# EAGLE library part HM_AT_MAINBOARD_V0.2 (library HOME_Automation)
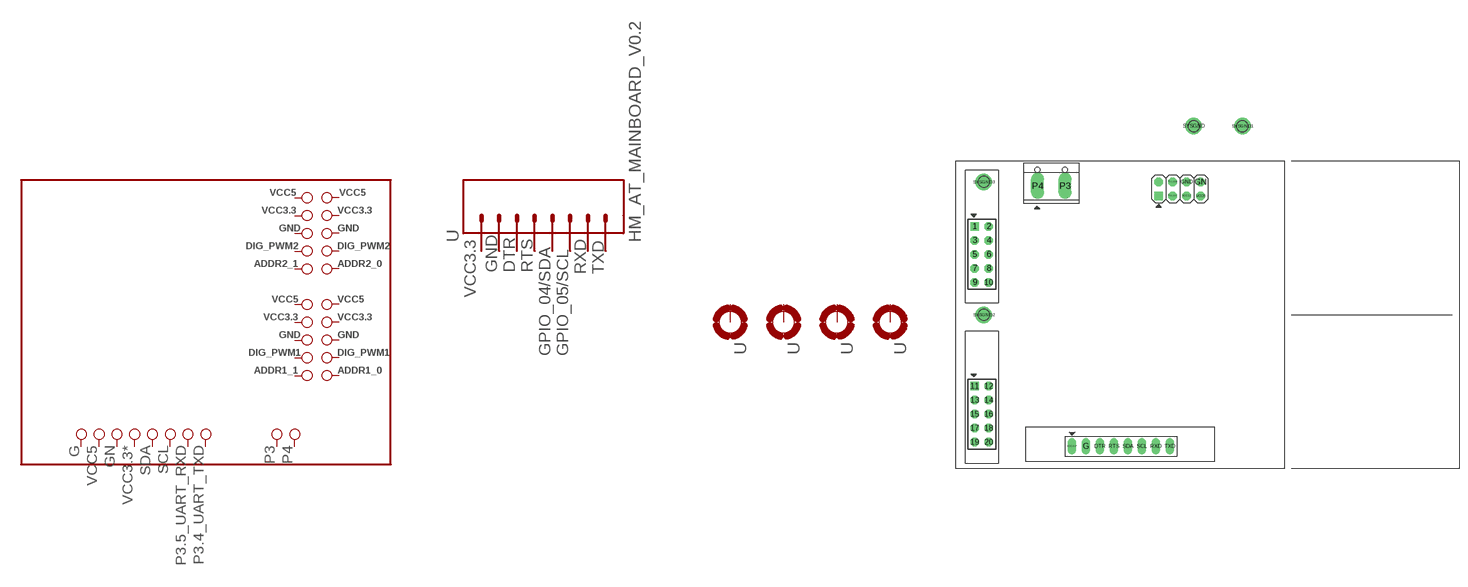
[diagram p10: symbol with the pads of HM_AT_MAINBOARD_V0.2; footprint HM_AT_MAINBOARD_V0.2]

Designator prefix -

## HM_AT_MAINBOARD_V0.2  [HM_AT_MAINBOARD_V0.2]
1  1  pas
2  2  pas
3  3  pas
4  4  pas
5  5  pas
6  6  pas
7  7  pas
8  8  pas
9  9  pas
10  10  pas
11  11  pas
12  12  pas
13  13  pas
14  14  pas
15  15  pas
16  16  pas
17  17  pas
18  18  pas
19  19  pas
20  20  pas
DTR  DTR
G  GN  pas
GN  GND  pas
GND  GND1
P3  P3  pas
P3.1_SDA  GPIO_04/SDA
P3.2_SCL  GPIO_05/SCL
P3.4_UART_TXD  P3.4_UART_TXD  pas
P3.5_UART_RXD  P3.5_UART_RXD  pas
P4  P4  pas
RTS  RTS
RXD  RXD
SCL  P3.2_SCL  pas
SDA  P3.1_SDA  pas
SYSGND  MOUNT  pas
SYSGND1  MOUNT1  pas
SYSGND2  MOUNT2  pas
SYSGND3  MOUNT3  pas
TXD  TXD
VCC3.3  VCC3.1
VCC3.3*  VCC3.3  pas
VCC5  VCC5  pas

## Footprint HM_AT_MAINBOARD_V0.2 (pad centres in mm)
drill 1.016 square: 1 41.532,43.994; 11 41.532,14.994; P3.4_UART_TXD 74.93,49.53
drill 1.016 octagon: 2 44.072,43.994; 3 41.532,41.454; 4 44.072,41.454; 5 41.532,38.914; 6 44.072,38.914; 7 41.532,36.374; 8 44.072,36.374; 9 41.532,33.834; 10 44.072,33.834; 12 44.072,14.994; 13 41.532,12.454; 14 44.072,12.454; 15 41.532,9.914; 16 44.072,9.914; 17 41.532,7.374; 18 44.072,7.374; 19 41.532,4.834; 20 44.072,4.834; GN 82.55,52.07; GND 80.01,52.07; P3.1_SDA 77.47,52.07; P3.2_SCL 77.47,49.53; P3.5_UART_RXD 74.93,52.07; VCC3.3 80.01,49.53; VCC5 82.55,49.53
drill 1.016 long: DTR 64.262,4.064; G 61.722,4.064; RTS 66.802,4.064; RXD 74.422,4.064; SCL 71.882,4.064; SDA 69.342,4.064; TXD 76.962,4.064; VCC3.3* 59.182,4.064
drill 1.4 pad 2.38 long: P3 57.928,51.382; P4 52.928,51.382
drill 2: SYSGND 81.28,62.23; SYSGND1 90.17,62.23; SYSGND2 43.18,27.94; SYSGND3 43.18,52.07
hole 2 at 43.18,52.07
hole 2 at 90.17,62.23
hole 2 at 81.28,62.23
hole 2 at 43.18,27.94